# Altium footprint library 传感元件.PcbLib: 28 footprints (part 1 of 2)
Each footprint in its own frame and in the unit in brackets; x right, y up, seen from the top. Pads: shape width x height; smd on the part's side, far side on the other; paste and mask are expansions set on the pad; w line width, h text height; cw(c..) or ccw(c..) is an arc to the next point about the centre after c.
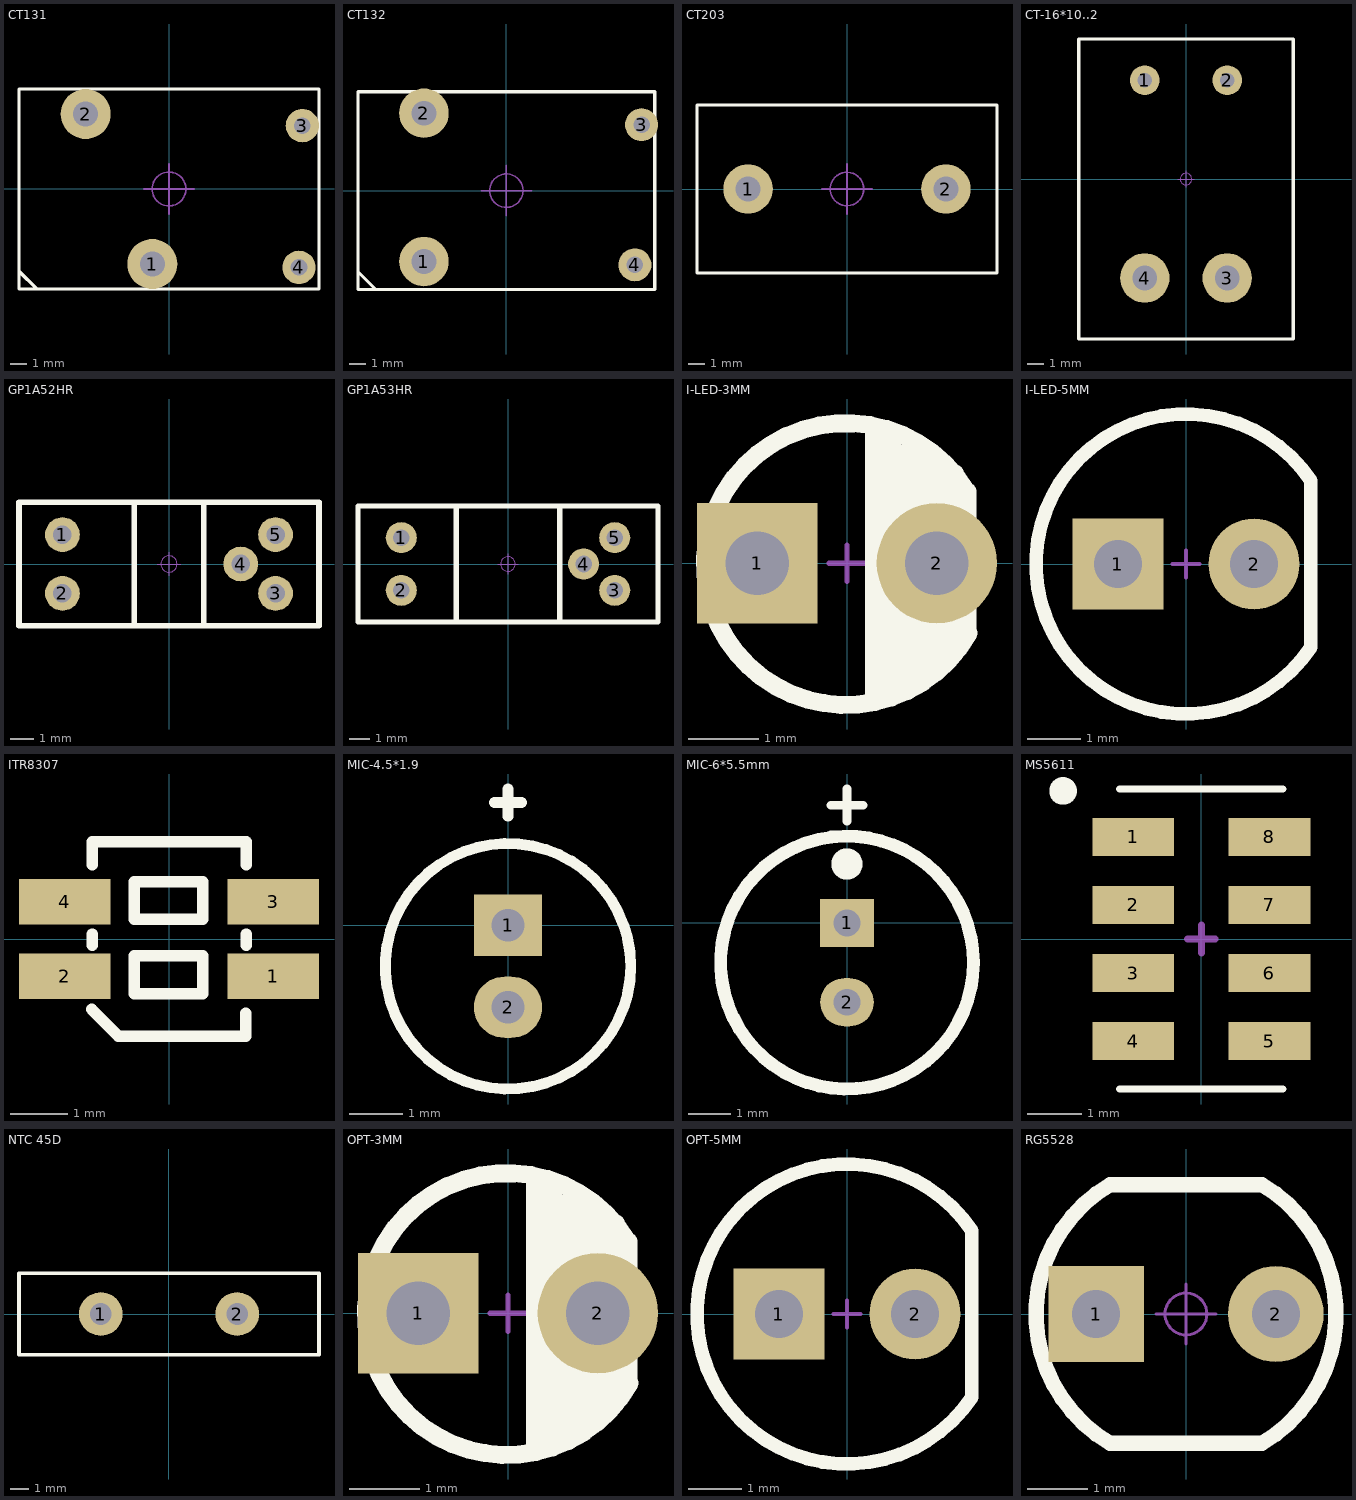
[diagram p0: the footprints below, top view; thin cyan lines are the x and y axes]

## CT131 [mm]
pads (4):
  round 3 hole 1.5: 1(-1,-4.5) 2(-5,4.5)
  round 2 hole 1: 3(8,3.8) 4(7.8,-4.7)
Top Overlay:
  lines w0.2: -9,-4.928 -7.939,-5.989 ; -9,-6 9,-6 9,6 -9,6 -9,-6
Mechanical 15:
  circle w0.1: c0,0 r1.016
  lines w0.1: -1.524,0 1.524,0 ; 0,-1.524 0,1.524
3D body: height 0, standoff -4, extent 7.498,-5.005 8.102,-4.395
3D body: height 0, standoff -4, extent 7.698,3.495 8.302,4.105
3D body: height 0, standoff -4, extent -1.529,-5.033 -0.471,-3.967
3D body: height 0, standoff -4, extent -5.529,3.967 -4.471,5.033
3D body: height 0.25, standoff 0, extent -5.004,7.747 -5.004,7.747
3D body: height 18, standoff 0, extent -9,-6 9,6
3D body: height 18.01, standoff 17, extent -8.937,-5.918 -7.878,-4.851

## CT132 [mm]
pads (4):
  round 3 hole 1.5: 1(-5,-4.3) 2(-5,4.7)
  round 2 hole 1: 3(8.2,4) 4(7.8,-4.5)
Top Overlay:
  lines w0.2: -9,-4.928 -7.939,-5.989 ; -9,-6 -9,6 9,6 9,-6 -9,-6
Mechanical 15:
  circle w0.1: c0,0 r1.016
  lines w0.1: -1.524,0 1.524,0 ; 0,-1.524 0,1.524

## CT203 [mm]
pads (2):
  round 3 hole 1.5: 1(-6,0) 2(6,0)
Top Overlay:
  lines w0.2: -9.1,-5.1 -9.1,5.1 9.1,5.1 9.1,-5.1 -9.1,-5.1
Mechanical 15:
  circle w0.1: c0,0 r1.016
  lines w0.1: -1.524,0 1.524,0 ; 0,-1.524 0,1.524
3D body "CT203.stp": height 21.52, standoff -1.4, extent -9.1,-5.1 9.1,5.1

## CT-16*10..2 [mm] "脚距5*12"
pads (4):
  round 1.8 hole 0.9: 1(-2.5,6) 2(2.5,6)
  round 3 hole 1.5: 3(2.5,-6) 4(-2.5,-6)
Top Overlay:
  lines w0.2: -6.5,-9.7 6.5,-9.7 6.5,8.5 -6.5,8.5 -6.5,-9.7
Mechanical 15:
  circle w0.05: c0,0 r0.35
  lines w0.05: -0.5,0 0.5,0 ; 0,-0.5 0,0.5
3D body: height 14, standoff 0, extent -6.5,-9.7 6.5,8.5
3D body: height 0.25, standoff 0, extent 13.818,5.029 13.818,5.029
3D body: height 0, standoff -5, extent 2.198,5.695 2.802,6.305
3D body: height 0, standoff -5, extent -2.802,5.695 -2.198,6.305
3D body: height 0, standoff -5, extent 1.895,-6.61 3.105,-5.39
3D body: height 0, standoff -5, extent -3.105,-6.61 -1.895,-5.39

## GP1A52HR [mm] "长: 12.5mm,宽:5mm,高:10mm,槽宽:3mm"
pads (5):
  round 1.5 hole 0.8: 1(-4.6,1.27) 2(-4.6,-1.27) 3(4.6,-1.27) 4(3.1,0) 5(4.6,1.27)
Top Overlay:
  lines w0.25: -1.5,-2.667 -1.5,2.667 ; 1.5,-2.667 1.5,2.667 ; -6.477,-2.667 6.477,-2.667 6.477,2.667 -6.477,2.667 -6.477,-2.667
Mechanical 15:
  circle w0.05: c0,0 r0.35
  lines w0.05: -0.5,0 0.5,0 ; 0,-0.5 0,0.5
3D body "GP1A52HR.STEP": height 10.05, standoff -3.15, extent -6.25,-2.5 6.25,2.5

## GP1A53HR [mm] "长: 14mm,宽:5.2mm,高:10mm,槽宽:5mm"
pads (5):
  round 1.5 hole 0.8: 1(-5.15,1.27) 2(-5.15,-1.27) 3(5.15,-1.27) 4(3.65,0) 5(5.15,1.27)
Top Overlay:
  lines w0.25: -2.5,-2.667 -2.5,2.667 ; 2.5,-2.667 2.5,2.667 ; -7.239,-2.794 -7.239,2.794 7.239,2.794 7.239,-2.794 -7.239,-2.794
Mechanical 15:
  circle w0.05: c0,0 r0.35
  lines w0.05: -0.5,0 0.5,0 ; 0,-0.5 0,0.5
3D body "GP1A53HR.STEP": height 10.05, standoff -3.15, extent -7,-2.6 7,2.6

## I-LED-3MM [mm] "3mm红外发射管"
height 6.35
pads (2):
  rect 1.7x1.7 hole 0.9: 1(-1.27,0)
  round 1.7 hole 0.9: 2(1.27,0)
Top Overlay:
  lines w0.254: 0.381,-1.905 0.381,1.905 ; 0.635,-1.778 0.635,1.778 ; 1.016,-1.651 1.016,1.524 ; 1.524,1.27 1.524,-1.27 1.27,-1.524 1.27,1.397 1.143,1.524 1.016,1.524 ; 1.685,1.025 ccw(c-0.016,-0.012) 1.72,-0.987 ; 1.702,-0.965 1.702,1.016 ; 0.889,1.651 0.889,-1.778 0.889,1.651 ; 0.889,1.651 1.016,1.524
Mechanical 15:
  lines w0.076: -0.254,0 0.254,0 ; 0,-0.254 0,0.254
3D body "LED 3mm-W.STEP": height 2.56, standoff -3.45, extent -1.623,-0.838 1.618,0.838
3D body "LED 3mm-玻璃罩.ST": height 5.55, standoff 0.05, extent -1.95,-1.95 1.638,1.95

## I-LED-5MM [mm] "5mm红外发射管"
height 10.16
pads (2):
  rect 1.7x1.7 hole 0.9: 1(-1.27,0)
  round 1.7 hole 0.9: 2(1.27,0)
Top Overlay:
  lines w0.254: 2.33,-1.553 cw(c0,0) 2.33,1.553 2.33,-1.553
Mechanical 15:
  lines w0.076: -0.254,0 0.254,0 ; 0,-0.254 0,0.254
3D body "LED 5mm-W.STEP": height 4.5, standoff -3.45, extent -1.983,-0.795 2.076,0.805
3D body "LED 5mm玻璃罩.ST": height 8.75, standoff 0.05, extent -2.85,-2.85 2.454,2.85

## ITR8307 [mm]
pads (4):
  rect 1.6x0.8 smd: 1(1.825,-0.65) 2(-1.825,-0.65) 3(1.825,0.65) 4(-1.825,0.65)
Top Overlay:
  lines w0.2: -1.354,-1.231 -0.885,-1.7 -0.004,-1.7 1.346,-1.7 1.346,-1.3 ; -1.346,-0.112 -1.346,0.088 ; -1.346,1.3 -1.346,1.7 0.004,1.7 1.354,1.7 1.354,1.3 ; 1.354,-0.112 1.354,0.088 ; -0.606,-0.955 0.588,-0.955 0.588,-0.294 -0.606,-0.294 -0.606,-0.955 ; -0.606,0.345 -0.606,1.006 0.588,1.006 0.588,0.345 -0.606,0.345

## MIC-4.5*1.9 [mil] "咪咪头"
pads (2):
  rect 50x45 hole 24: 1(0,0)
  oval 50x45 hole 24: 2(0,-60)
Top Overlay:
  circle w8: c0,-30 r90
  lines w8: -10,90 10,90 ; 0,80 0,100
3D body "MIC4.5X1.9.stp": height 75.38, standoff -110.24, extent -88.81,-118.58 88,58.58

## MIC-6*5.5mm [mil] "咪咪头"
pads (2):
  rect 50x45 hole 25: 1(0,0)
  oval 50x45 hole 25: 2(0,-74)
Top Overlay:
  circle w12: c0,-37 r118
  circle w15: c0,55 r7.07
  lines w8: -15,110 15,110 ; 0,95 0,125
3D body "MIC6X5.5mm.stp": height 197.64, standoff -118.11, extent -117.78,-157.1 117.78,79.12

## MS5611 [mm] "气压传感芯片"
pads (8):
  rect 1.5x0.7 smd: 1(-1.25,1.875) 2(-1.25,0.625) 3(-1.25,-0.625) 4(-1.25,-1.875) 5(1.25,-1.875) 6(1.25,-0.625) 7(1.25,0.625) 8(1.25,1.875)
Top Overlay:
  circle w0.454: c-2.54,2.718 r0.025
  lines w0.127: -1.5,-2.754 1.5,-2.754 ; -1.5,2.754 1.5,2.754
Mechanical 15:
  lines w0.127: -0.254,0 0.254,0 ; 0,-0.254 0,0.254
3D body "SM5611.STEP": height 1, standoff -0.01, extent -1.5,-2.5 1.501,2.5

## NTC 45D [mm] "47MM热敏电阻"
pads (2):
  round 2.4 hole 1.2: 1(-3.75,0) 2(3.75,0)
Top Overlay:
  lines w0.2: -8.25,-2.25 8.25,-2.25 8.25,2.25 -8.25,2.25 -8.25,-2.25
3D body "User Library-RES_NTC-B57237S0509M0-THT_1500_0700_2200.STEP": height 22.1, standoff -3.5, extent -7.5,-3.5 7.5,3.5

## OPT-3MM [mm] "3mm红外接收管"
height 6.35
pads (2):
  rect 1.7x1.7 hole 0.9: 1(-1.27,0)
  round 1.7 hole 0.9: 2(1.27,0)
Top Overlay:
  lines w0.254: 0.381,-1.905 0.381,1.905 ; 0.635,-1.778 0.635,1.778 ; 1.016,-1.651 1.016,1.524 ; 1.524,1.27 1.524,-1.27 1.27,-1.524 1.27,1.397 1.143,1.524 1.016,1.524 ; 1.685,1.025 ccw(c-0.016,-0.012) 1.72,-0.987 ; 1.702,-0.965 1.702,1.016 ; 0.889,1.651 0.889,-1.778 0.889,1.651 ; 0.889,1.651 1.016,1.524
Mechanical 15:
  lines w0.076: -0.254,0 0.254,0 ; 0,-0.254 0,0.254
3D body "LED 3mm-W.STEP": height 2.56, standoff -3.45, extent -1.623,-0.838 1.618,0.838
3D body "LED 3mm-玻璃罩.STEP": height 5.55, standoff 0.05, extent -1.95,-1.95 1.638,1.95

## OPT-5MM [mm] "5mm红外接收管"
height 10.16
pads (2):
  rect 1.7x1.7 hole 0.9: 1(-1.27,0)
  round 1.7 hole 0.9: 2(1.27,0)
Top Overlay:
  lines w0.254: 2.33,-1.553 cw(c0,0) 2.33,1.553 2.33,-1.553
Mechanical 15:
  lines w0.076: -0.254,0 0.254,0 ; 0,-0.254 0,0.254
3D body "LED 5mm玻璃罩.STEP": height 8.75, standoff 0.05, extent -2.85,-2.85 2.454,2.85
3D body "LED 5mm-W.STEP": height 4.5, standoff -3.45, extent -1.983,-0.795 2.076,0.805

## RG5528 [mm] "光敏电阻 脚距：3mm"
pads (2):
  rect 1.6x1.6 hole 0.8: 1(-1.5,0)
  round 1.6 hole 0.8: 2(1.5,0)
Top Overlay:
  lines w0.254: -1.27,-2.159 cw(c0,0) -1.27,2.159 1.27,2.159 cw(c0,0) 1.27,-2.159 -1.27,-2.159
Mechanical 15:
  circle w0.05: c0,0 r0.35
  lines w0.05: -0.5,0 0.5,0 ; 0,-0.5 0,0.5
3D body "RG5528.STEP": height 1.9, standoff -3.45, extent -2.5,-2.15 2.5,2.15